# EAGLE library part RS485_TCVR_ISL32614E (library leaf)
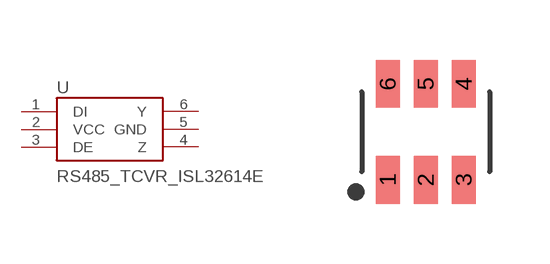
[diagram p8: symbol with the pads of SOT23-6_INTERSIL; footprint SOT23-6_INTERSIL]

Designator prefix U

## RS485_TCVR_ISL32614E  [SOT23-6_INTERSIL]
1  DI
2  VCC
3  DE
4  Z
5  GND
6  Y

## Footprint SOT23-6_INTERSIL (pad centres in mm)
smd 0.6 x 1.2: 1 -0.95,-1.2; 2 0,-1.2; 3 0.95,-1.2; 4 0.95,1.2; 5 0,1.2; 6 -0.95,1.2